# EAGLE library part 14VS (library 1A-meinLib)
CONNECTOR
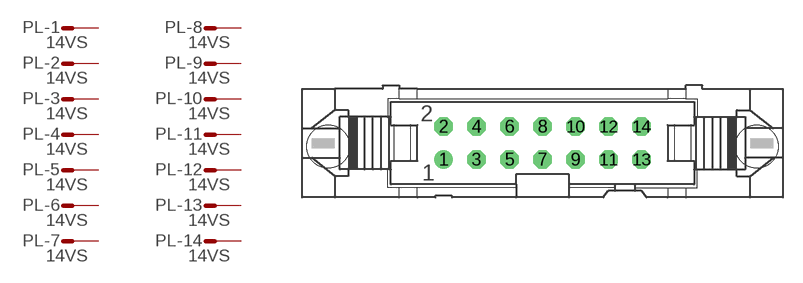
[diagram p125: symbol with the pads of 14V; footprint 14V]

Designator prefix PL; gates -1=M-1 -2=M-1 -3=M-1 -4=M-1 -5=M-1 -6=M-1 -7=M-1 -8=M-1 -9=M-1 -10=M-1 -11=M-1 -12=M-1 -13=M-1 -14=M-1

## 14VS  [14V]
1  -1:S  pas
2  -2:S  pas
3  -3:S  pas
4  -4:S  pas
5  -5:S  pas
6  -6:S  pas
7  -7:S  pas
8  -8:S  pas
9  -9:S  pas
10  -10:S  pas
11  -11:S  pas
12  -12:S  pas
13  -13:S  pas
14  -14:S  pas

## Footprint 14V (pad centres in mm)
CONNECTOR
drill 0.914 round: 1 -7.62,-1.27
drill 0.914 octagon: 2 -7.62,1.27; 3 -5.08,-1.27; 4 -5.08,1.27; 5 -2.54,-1.27; 6 -2.54,1.27; 7 0,-1.27; 8 0,1.27; 9 2.54,-1.27; 10 2.54,1.27; 11 5.08,-1.27; 12 5.08,1.27; 13 7.62,-1.27; 14 7.62,1.27
hole 3.302 at 16.51,-0.254
hole 3.302 at -16.51,-0.254